# EAGLE library part SIGNAL_BRIDGE_9 (library greghale_eib_preamp)
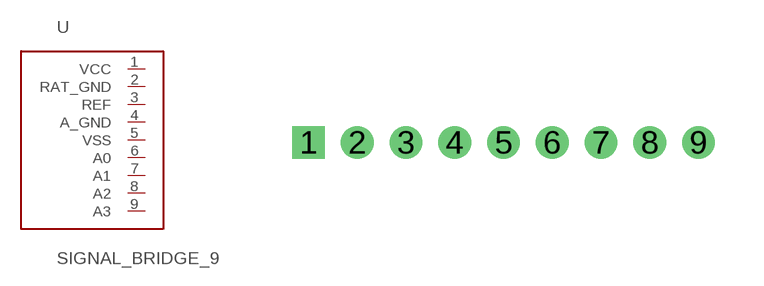
[diagram p8: symbol with the pads of SIGNAL_BRIDGE_9; footprint SIGNAL_BRIDGE_9]

Designator prefix -

## SIGNAL_BRIDGE_95MM_THROUGHHOLE  [SIGNAL_BRIDGE_9]
1  VCC
2  RAT_GND
3  REF
4  A_GND
5  VSS
6  A0
7  A1
8  A2
9  A3

## Footprint SIGNAL_BRIDGE_9 (pad centres in mm)
drill 0.5 square: 1 0,0
drill 0.5 round: 2 1.5,0; 3 3,0; 4 4.5,0; 5 6,0; 6 7.5,0; 7 9,0; 8 10.5,0; 9 12,0